# EAGLE library part 15L (library 000001)
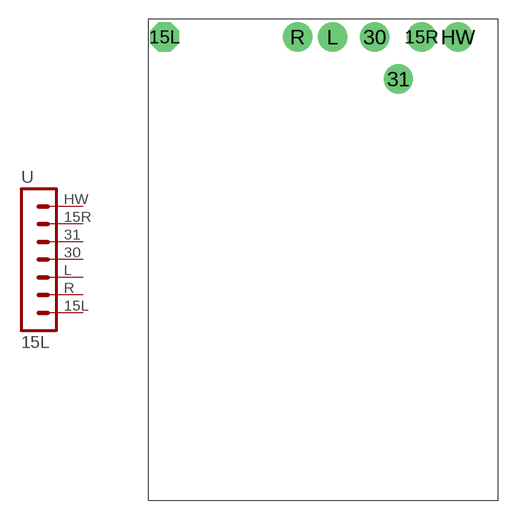
[diagram p67: symbol with the pads of 15L; footprint 15L]

Designator prefix -

## 15L  [15L]
15L  15L  pas
15R  15R  pas
30  30  pas
31  31  pas
HW  HW  pas
L  L  pas
R  R  pas

## Footprint 15L (pad centres in mm)
drill 0.5 pad 2.35 octagon: 15L -8.225,5.95
drill 0.5 pad 2.35 round: 15R 12.3,5.95; 30 8.55,5.95; 31 10.45,2.6; HW 15.225,5.95; L 5.2,5.95; R 2.4,5.95